# EAGLE library part SN74LVC32ADBR (library SamacSys_Parts)
Texas Instruments SN74LVC32ADBR, OR Quad 2 Input OR, 1.65 3.6 V, 14-Pin SSOP Source: Datasheet <http://www.ti.com/lit/gpn/sn74lvc32a>
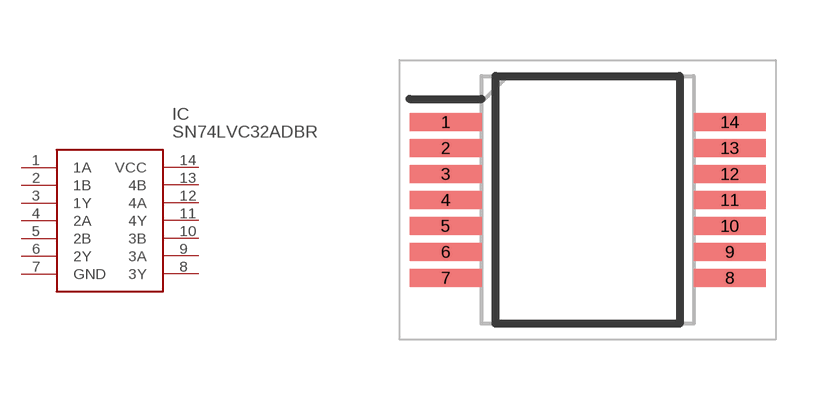
[diagram p1: symbol with the pads of SOP65P780X200-14N; footprint SOP65P780X200-14N]

Designator prefix IC

## SN74LVC32ADBR (DESCRIPTION: Texas Instruments SN74LVC32ADBR, OR Quad 2 Input OR, 1.65 3.6 V, 14-Pin SSOP; HEIGHT: 2mm; MANUFACTURER_NAME: Texas Instruments; MANUFACTURER_PART_NUMBER: SN74LVC32ADBR; MOUSER_PART_NUMBER: 595-SN74LVC32ADBR; MOUSER_PRICE-STOCK: https://www.mouser.com/Search/Refine.aspx?Keyword=595-SN74LVC32ADBR)  [SOP65P780X200-14N]
1  1A  in
2  1B  in
3  1Y  out
4  2A  in
5  2B  in
6  2Y  out
7  GND  pwr
8  3Y  out
9  3A  in
10  3B  in
11  4Y  out
12  4A  in
13  4B  in
14  VCC  pwr

## Footprint SOP65P780X200-14N (pad centres in mm)
SN74HC14DBR-1
smd 1.8 x 0.45: 1 -3.55,1.95; 2 -3.55,1.3; 3 -3.55,0.65; 4 -3.55,0; 5 -3.55,-0.65; 6 -3.55,-1.3; 7 -3.55,-1.95; 8 3.55,-1.95; 9 3.55,-1.3; 10 3.55,-0.65; 11 3.55,0; 12 3.55,0.65; 13 3.55,1.3; 14 3.55,1.95